# EAGLE library part ATMEGA3208-32-MFR (library my-MicrochipTechnology)
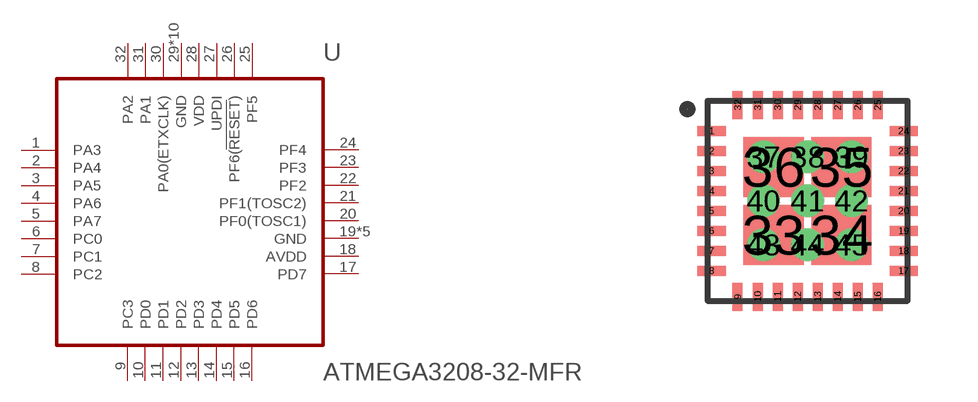
[diagram p6: symbol with the pads of QFN-32(5X5MM); footprint QFN-32(5X5MM)]

Designator prefix -

## ATMEGA3208-32-MFR  [QFN-32(5X5MM)]
1  PA3
2  PA4
3  PA5
4  PA6
5  PA7
6  PC0
7  PC1
8  PC2
9  PC3
10  PD0
11  PD1
12  PD2
13  PD3
14  PD4
15  PD5
16  PD6
17  PD7
18  AVDD
19  GND
20  PF0(TOSC1)
21  PF1(TOSC2)
22  PF2
23  PF3
24  PF4
25  PF5
26  PF6(!RESET!)
27  UPDI
28  VDD
29  GND
30  PA0(ETXCLK)
31  PA1
32  PA2
33  GND
34  GND
35  GND
36  GND
37  GND
38  GND
39  GND
40  GND
41  GND
42  GND
43  GND
44  GND
45  GND

## Footprint QFN-32(5X5MM) (pad centres in mm)
smd 0.7 x 0.25: 1 -2.4,1.75; 2 -2.4,1.25; 3 -2.4,0.75; 4 -2.4,0.25; 5 -2.4,-0.25; 6 -2.4,-0.75; 7 -2.4,-1.25; 8 -2.4,-1.75; 17 2.4,-1.75; 18 2.4,-1.25; 19 2.4,-0.75; 20 2.4,-0.25; 21 2.4,0.25; 22 2.4,0.75; 23 2.4,1.25; 24 2.4,1.75
smd 0.25 x 0.7: 9 -1.75,-2.4; 10 -1.25,-2.4; 11 -0.75,-2.4; 12 -0.25,-2.4; 13 0.25,-2.4; 14 0.75,-2.4; 15 1.25,-2.4; 16 1.75,-2.4; 25 1.75,2.4; 26 1.25,2.4; 27 0.75,2.4; 28 0.25,2.4; 29 -0.25,2.4; 30 -0.75,2.4; 31 -1.25,2.4; 32 -1.75,2.4
smd 1.5 x 1.5: 33 -0.85,-0.85; 34 0.85,-0.85; 35 0.85,0.85; 36 -0.85,0.85
drill 0.3: 37 -1.1,1.1; 38 0,1.1; 39 1.1,1.1; 40 -1.1,0; 41 0,0; 42 1.1,0; 43 -1.1,-1.1; 44 0,-1.1; 45 1.1,-1.1